# Altium footprint library HDR1X5.PcbLib: 1 footprints
Each footprint in its own frame and in the unit in brackets; x right, y up, seen from the top. Pads: shape width x height; smd on the part's side, far side on the other; paste and mask are expansions set on the pad; w line width, h text height; cw(c..) or ccw(c..) is an arc to the next point about the centre after c.
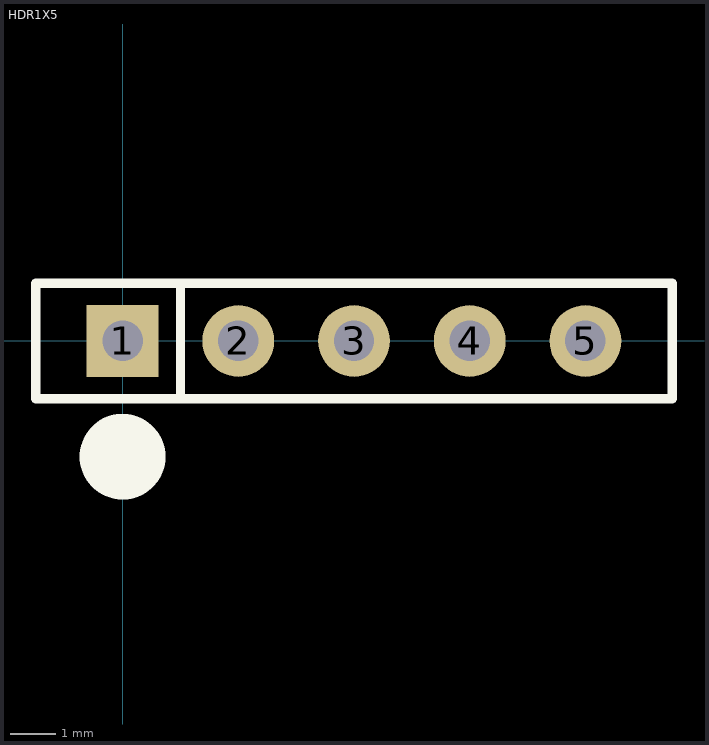
[diagram p0: the footprint, top view; thin cyan lines are the x and y axes]

## HDR1X5 [mil]
pads (5):
  rect 62x62 hole 35: 1(0,0)
  round 62 hole 35: 2(100,0) 3(200,0) 4(300,0) 5(400,0)
Top Overlay:
  circle w60: c0,-100 r7.07
  lines w8: 50,-50 50,50 ; -75,-50 -75,50 475,50 475,-50 -75,-50
Mechanical 4:
  text ".358" at 0,0 h1